# EAGLE library part HAUPTSCHUETZ_2-POL (library e-schuetze-relais)
Hauptschütz mit 2 Schließern
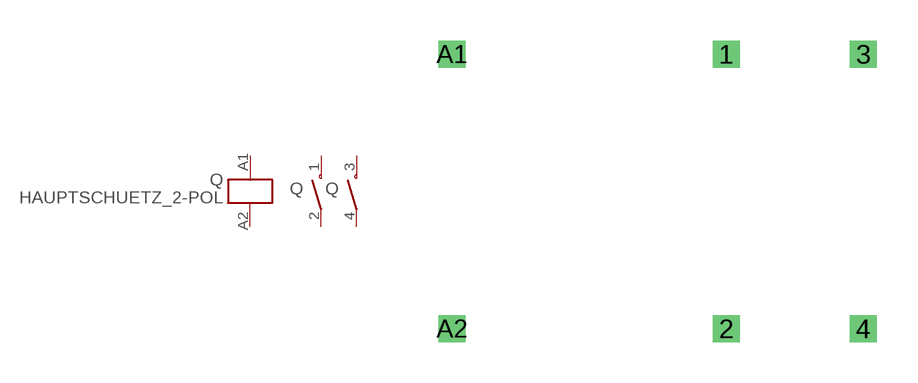
[diagram p16: symbol with the pads of HAUPTSCHUETZ_2-POL; footprint HAUPTSCHUETZ_2-POL]

Designator prefix Q; gates 1=SPULE G$1=SCHLIESSER_HAUPTSCHUETZ G$2=SCHLIESSER_HAUPTSCHUETZ

## HAUPTSCHUETZ_2-POL  [HAUPTSCHUETZ_2-POL]
1  G$1:3  pas
2  G$1:4  pas
3  G$2:3  pas
4  G$2:4  pas
A1  1:A1  in
A2  1:A2  in

## Footprint HAUPTSCHUETZ_2-POL (pad centres in mm)
Dummy
drill 0.5 pad 1 square: 1 2.54,2.54; 2 2.54,-7.62; 3 7.62,2.54; 4 7.62,-7.62; A1 -7.62,2.54; A2 -7.62,-7.62